# Altium footprint library UNO.PcbLib: 26 footprints (part 2 of 2)
Each footprint in its own frame and in the unit in brackets; x right, y up, seen from the top. Pads: shape width x height; smd on the part's side, far side on the other; paste and mask are expansions set on the pad; w line width, h text height; cw(c..) or ccw(c..) is an arc to the next point about the centre after c.
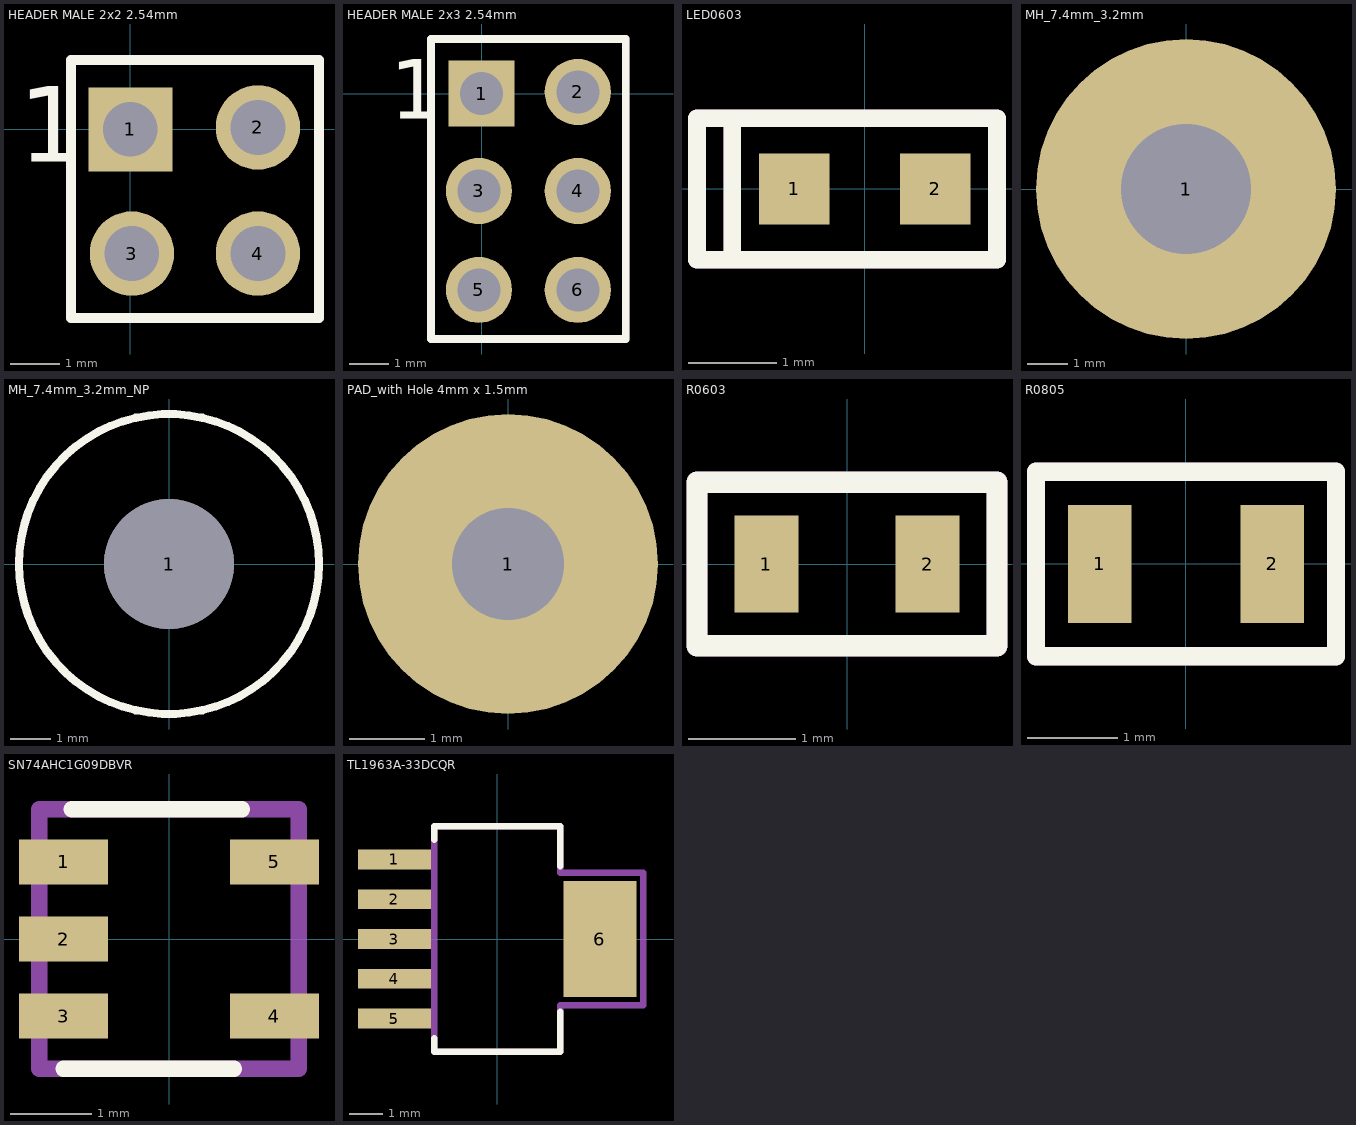
[diagram p1: the footprints below, top view; thin cyan lines are the x and y axes]

## HEADER MALE 2x2 2.54mm [mm]
pads (4):
  rect 1.7x1.7 hole 1.1: 1(0,0)
  round 1.7 hole 1.1: 2(2.57,0.04) 3(0.03,-2.5) 4(2.57,-2.5)
Top Overlay:
  lines w0.2: -1.2,-3.8 -1.2,-2.5 -1.2,1.4 -0.3,1.4 3.8,1.4 3.8,-3.8 -1.2,-3.8
  text "1" at -2.246,-0.646 h1.52
Mechanical 29:
  circle w0.508: c0.1,0 r0.224
  lines w0.2: -1.2,-3.8 -1.2,1.4 3.8,1.4 3.8,-3.8 -1.2,-3.8
  text "'.Designator'" at 1.402,-2.2 h0.52
3D body "961204-6404-XX.stp": height 7.5, standoff -3.8, extent -1.1,-3.74 3.9,1.34

## HEADER MALE 2x3 2.54mm [mm]
pads (6):
  rect 1.7x1.7 hole 1.1: 1(0,0)
  round 1.7 hole 1.1: 2(2.47,0.04) 3(-0.07,-2.5) 4(2.47,-2.5) 5(-0.07,-5.04) 6(2.47,-5.04)
Top Overlay:
  lines w0.2: -1.3,-6.3 -1.3,-2.5 -1.3,1.4 -0.4,1.4 3.7,1.4 3.7,-6.3 -1.3,-6.3
  text "1" at -2.346,-0.646 h1.52
Mechanical 1:
  circle w0.508: c0,0 r0.283
Mechanical 29:
  circle w0.508: c0,0 r0.224
  lines w0.2: -1.3,-6.3 -1.3,1.4 3.7,1.4 3.7,-6.3 -1.3,-6.3
  text "'.Designator'" at 1.302,-2.2 h0.52
3D body "67997-106HLF--3DModel-STEP-554624.STEP": height 8.39, standoff -3.04, extent -1.215,-6.21 3.615,1.41

## LED0603 [mm]
pads (2):
  rect 0.8x0.8 smd: 1(-0.8,0) 2(0.8,0)
Top Overlay:
  lines w0.2: -1.5,-0.8 -1.9,-0.8 -1.9,0.8 -1.5,0.8 ; -1.5,-0.8 -1.5,0.8 ; -1.5,-0.8 1.5,-0.8 1.5,0.8 -1.5,0.8
Mechanical 29:
  lines w0.2: -1.5,-0.8 -1.9,-0.8 -1.9,0.8 -1.5,0.8 ; -1.5,-0.8 -1.5,0.8 ; -1.5,-0.8 1.5,-0.8 1.5,0.8 -1.5,0.8
  text "'.Designator'" at -0.6,-0.314 h1.52
3D body "User Library-LED SMD 0603 super red.step": height 0.65, standoff 0, extent -0.85,-0.4 0.85,0.4

## MH_7.4mm_3.2mm [mm]
pads (1):
  round 7.4 hole 3.2: 1(0,0)

## MH_7.4mm_3.2mm_NP [mm]
pads (1):
  round 3.2 hole 3.2 unplated: 1(0,0)
Top Overlay:
  circle w0.2: c0,0 r3.7

## PAD_with Hole 4mm x 1.5mm [mm]
pads (1):
  round 4 hole 1.5: 1(0,0)

## R0603 [mm]
pads (2):
  rect 0.6x0.9 smd: 1(-0.75,0) 2(0.75,0)
Top Overlay:
  lines w0.2: -1.397,-0.762 1.397,-0.762 1.397,0.762 -1.397,0.762 -1.397,-0.762
Mechanical 29:
  lines w0.2: -1.397,-0.762 -1.397,0.762 1.397,0.762 1.397,-0.762 -1.397,-0.762
  text "'.Designator'" at -1.397,-0.476 h1.52
3D body "R0603.step": height 0.8, standoff 0, extent -0.825,-0.408 0.775,0.432

## R0805 [mm]
pads (2):
  rect 0.7x1.3 smd: 1(-0.95,0) 2(0.95,0)
Top Overlay:
  lines w0.2: -1.651,-1.016 -1.651,0 -1.651,1.016 1.651,1.016 1.651,-1.016 -1.651,-1.016
Mechanical 29:
  lines w0.2: -1.651,-1.016 1.651,-1.016 1.651,1.016 -0.762,1.016 -1.651,1.016 -1.651,0.762 -1.651,-1.016
  text "'.Designator'" at -1.346,0.008 h0.25
3D body "User Library-Chip Resistor2.step": height 0.71, standoff 0.01, extent -1,-0.6 1,0.6

## SN74AHC1G09DBVR [mm]
pads (5):
  rect 1.1x0.55 smd: 1(-1.3,0.95) 2(-1.3,0) 3(-1.3,-0.95) 4(1.3,-0.95) 5(1.3,0.95)
Top Overlay:
  lines w0.2: -1.3,-1.6 0.8,-1.6 ; -1.2,1.6 0.9,1.6
Mechanical 29:
  lines w0.2: -1.3,-1.6 0.8,-1.6 ; -1.6,-1.6 1.6,-1.6 1.6,1.6 0.9,1.6 -1.2,1.6 -1.6,1.6 -1.6,-1.6
  text "'.Designator'" at -0.4,-0.114 h1.52
3D body "User Library-TPS79333DBVR.step": height 1.6, standoff -0.02, extent -1.514,-1.525 1.514,1.525

## TL1963A-33DCQR [mm]
pads (6):
  rect 2.2x0.6 smd: 1(-3.1,2.4) 2(-3.1,1.2) 3(-3.1,0) 4(-3.1,-1.2) 5(-3.1,-2.4)
  rect 2.2x3.5 smd: 6(3.1,0)
Top Overlay:
  lines w0.2: -1.9,-3 -1.9,-3.4 1.9,-3.4 1.9,-2.2 ; -1.9,3 -1.9,3.4 1.9,3.4 1.9,2.2
Mechanical 29:
  lines w0.2: -1.9,-3.4 -1.9,-3 -1.9,3.4 1.9,3.4 1.9,2 4.4,2 4.4,-2 1.9,-2 1.9,-3.4 -1.9,-3.4
  text "'.Designator'" at -1.3,-0.614 h1.52
3D body "User Library-TPS73701DCQ.step": height 1.71, standoff -0.09, extent -3.63,-3.2 3.63,3.35